# Altium footprint library various.PcbLib: 24 footprints (part 2 of 2)
Each footprint in its own frame and in the unit in brackets; x right, y up, seen from the top. Pads: shape width x height; smd on the part's side, far side on the other; paste and mask are expansions set on the pad; w line width, h text height; cw(c..) or ccw(c..) is an arc to the next point about the centre after c.
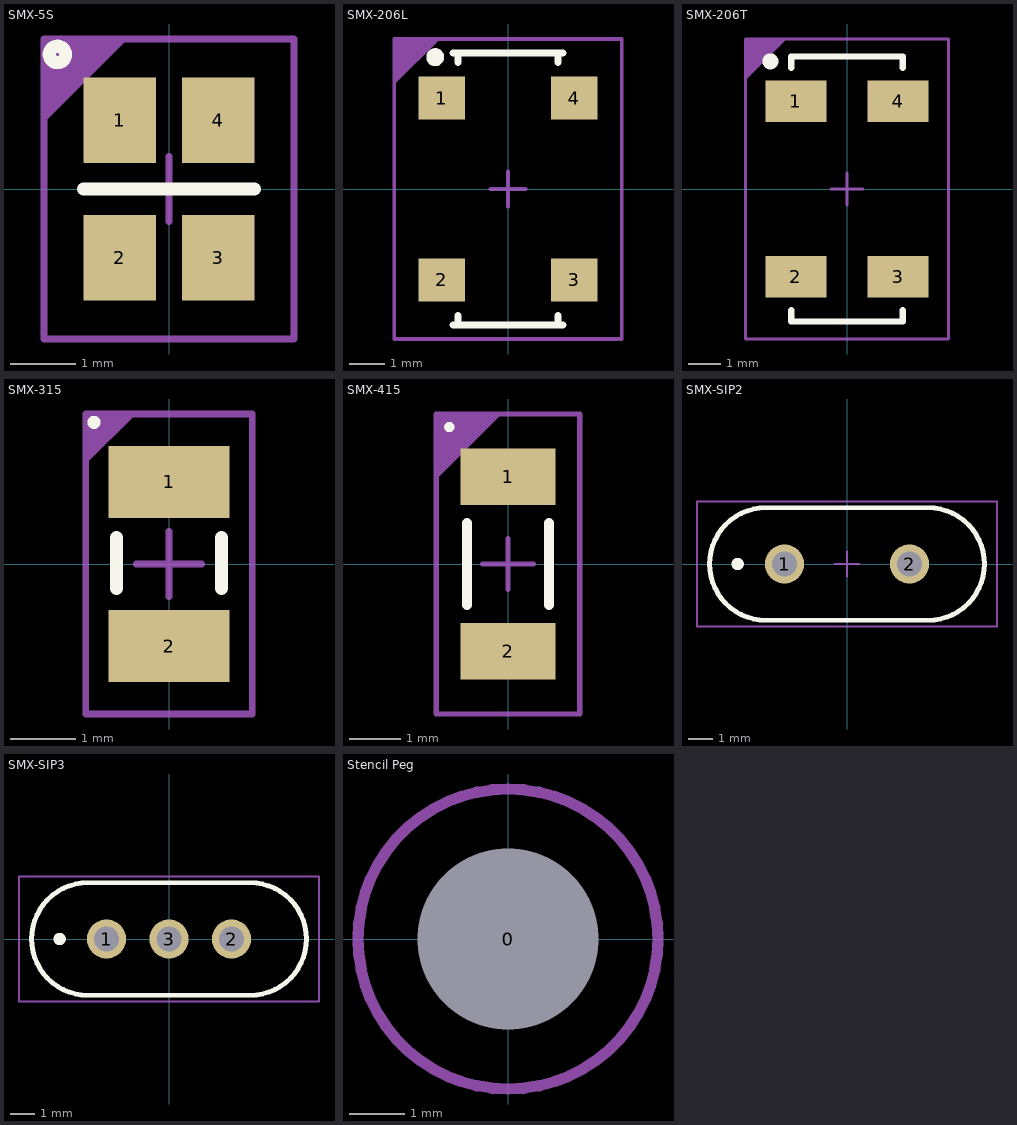
[diagram p1: the footprints below, top view; thin cyan lines are the x and y axes]

## SMX-5S [mm] "QFN, 4-Leads, Body 3,20x2,50mm, Pitch 2,10mm/1,50mm, IPC Medium Density"
height 0.8
pads (4):
  rect 1.1x1.3 smd: 1(-0.75,1.05) 2(-0.75,-1.05) 3(0.75,-1.05) 4(0.75,1.05)
Top Overlay:
  circle w0.2: c-1.7,2.05 r0.125
  lines w0.2: -1.3,0 1.3,0
Mechanical 13:
  region: -1.905,2.286 -1.905,1.016 -0.635,2.286
  lines w0.1: -1.905,-2.286 -1.905,2.286 1.905,2.286 1.905,-2.286 -1.905,-2.286
  text ".Designator" at -0.762,2.032 h1.6
Mechanical 15:
  lines w0.05: -1.905,-2.286 -1.905,2.286 1.905,2.286 1.905,-2.286 -1.905,-2.286
  lines w0.1: -0.5,0 0.5,0 ; 0,-0.5 0,0.5
3D body: height 0.8, standoff 0.1, extent -1.25,-1.6 1.25,1.6

## SMX-206L [mm] "QFN, 4-Leads, Body 7,30x2,50mm, Pitch 5,08mm, IPC Medium Density"
height 2
pads (4):
  rect 1.3x1.2 smd: 1(-1.85,2.54) 2(-1.85,-2.54) 3(1.85,-2.54) 4(1.85,2.54)
Top Overlay:
  circle w0.25: c-2.032,3.683 r0.125
  lines w0.2: -1.54,-3.8 1.4,-3.8 1.4,-3.54 ; -1.54,3.8 1.4,3.8 1.4,3.54 ; -1.4,-3.54 -1.4,-3.8 1.54,-3.8 ; -1.4,3.54 -1.4,3.8 1.54,3.8
Mechanical 13:
  region: -3.175,4.191 -3.175,2.921 -1.905,4.191
  lines w0.1: -3.175,-4.191 3.175,-4.191 3.175,4.191 -3.175,4.191 -3.175,-4.191
  text ".Designator" at -1.016,2.286 h2
Mechanical 15:
  lines w0.05: -3.175,-4.191 3.175,-4.191 3.175,4.191 -3.175,4.191 -3.175,-4.191
  lines w0.1: -0.5,0 0.5,0 ; 0,-0.5 0,0.5
3D body: height 2, standoff 0.1, extent -1.25,-3.65 1.25,3.65

## SMX-206T [mm] "QFN, 4-Leads, Body 8,00x3,20mm, Pitch 5,50mm, IPC Medium Density"
height 2.4
pads (4):
  rect 1.9x1.3 smd: 1(-1.6,2.75) 2(-1.6,-2.75) 3(1.6,-2.75) 4(1.6,2.75)
Top Overlay:
  circle w0.25: c-2.4,4 r0.125
  lines w0.2: -1.75,-3.8 -1.75,-4.15 1.7,-4.15 ; -1.75,3.8 -1.75,4.15 1.7,4.15 ; -1.7,-4.15 1.75,-4.15 1.75,-3.8 ; -1.7,4.15 1.75,4.15 1.75,3.8
Mechanical 13:
  region: -3.175,4.699 -3.175,3.429 -1.905,4.699
  lines w0.1: -3.175,-4.699 -3.175,4.699 3.175,4.699 3.175,-4.699 -3.175,-4.699
  text ".Designator" at -1.016,2.286 h2
Mechanical 15:
  lines w0.05: -3.175,-4.699 -3.175,4.699 3.175,4.699 3.175,-4.699 -3.175,-4.699
  lines w0.1: -0.5,0 0.5,0 ; 0,-0.5 0,0.5
3D body: height 2.4, standoff 0.1, extent -1.6,-4 1.6,4

## SMX-315 [mm] "QFN, 2-Leads, Body 3,20x1,50mm, Pitch 2,50mm, IPC Medium Density"
height 0.9
pads (2):
  rect 1.85x1.1 smd: 1(0,1.25) 2(0,-1.25)
Top Overlay:
  circle w0.1: c-1.143,2.159 r0.05
  lines w0.2: -0.8,-0.375 -0.8,0.4 ; 0.8,-0.375 0.8,0.4
Mechanical 13:
  region: -1.27,2.286 -1.27,1.524 -0.508,2.286
  lines w0.1: -1.27,-2.286 1.27,-2.286 1.27,2.286 -1.27,2.286 -1.27,-2.286
  text ".Designator" at -0.762,2.032 h1.6
Mechanical 15:
  lines w0.05: -1.27,-2.286 1.27,-2.286 1.27,2.286 -1.27,2.286 -1.27,-2.286
  lines w0.1: -0.5,0 0.5,0 ; 0,-0.5 0,0.5
3D body: height 0.9, standoff 0.1, extent -0.75,-1.6 0.75,1.6

## SMX-415 [mm] "QFN, 2-Leads, Body 4,10x1,50mm, Pitch 3,40mm, IPC Medium Density"
height 0.9
pads (2):
  rect 1.85x1.1 smd: 1(0,1.7) 2(0,-1.7)
Top Overlay:
  circle w0.1: c-1.143,2.667 r0.05
  lines w0.2: -0.8,-0.8 -0.8,0.8 ; 0.8,-0.8 0.8,0.8
Mechanical 13:
  region: -1.397,2.921 -1.397,1.651 -0.127,2.921
  lines w0.1: -1.397,-2.921 -1.397,2.921 1.397,2.921 1.397,-2.921 -1.397,-2.921
  text ".Designator" at -0.762,1.778 h1.6
Mechanical 15:
  lines w0.05: -1.397,-2.921 -1.397,2.921 1.397,2.921 1.397,-2.921 -1.397,-2.921
  lines w0.1: -0.5,0 0.5,0 ; 0,-0.5 0,0.5
3D body: height 0.9, standoff 0.1, extent -0.75,-2.05 0.75,2.05

## SMX-SIP2 [mm]
pads (2):
  round 1.6 hole 1: 1(-2.54,0) 2(2.54,0)
Top Overlay:
  circle w0.25: c-4.443,0 r0.125
  lines w0.2: -3.302,-2.286 cw(c-3.302,0) -3.302,2.286 3.302,2.286 cw(c3.302,0) 3.302,-2.286 -3.302,-2.286
Mechanical 13:
  lines w0.1: -6.096,-2.54 6.096,-2.54 6.096,2.54 -6.096,2.54 -6.096,-2.54
  text ".Designator" at -2.286,-1.016 h2
Mechanical 15:
  lines w0.05: -6.096,-2.54 6.096,-2.54 6.096,2.54 -6.096,2.54 -6.096,-2.54
  lines w0.1: -0.5,0 0.5,0 ; 0,-0.5 0,0.5
3D body "HC-49S.STEP": height 3.5, standoff -2.25, extent -5.6,-2.3 5.6,2.3

## SMX-SIP3 [mm]
pads (3):
  round 1.6 hole 1: 1(-2.54,0) 2(2.54,0) 3(0,0)
Top Overlay:
  circle w0.25: c-4.443,0 r0.125
  lines w0.2: -3.302,-2.286 cw(c-3.302,0) -3.302,2.286 3.302,2.286 cw(c3.302,0) 3.302,-2.286 -3.302,-2.286
Mechanical 13:
  lines w0.1: -6.096,-2.54 6.096,-2.54 6.096,2.54 -6.096,2.54 -6.096,-2.54
  text ".Designator" at -2.286,-1.016 h2
Mechanical 15:
  lines w0.05: -6.096,-2.54 6.096,-2.54 6.096,2.54 -6.096,2.54 -6.096,-2.54
  lines w0.1: -0.5,0 0.5,0 ; 0,-0.5 0,0.5
3D body "HC-49S.STEP": height 3.5, standoff -2.25, extent -5.6,-2.3 5.6,2.3

## Stencil Peg [mil]
pads (2):
  round 130 on Top Paste paste+0: 0(0,0)
  round 0 hole 130 paste+0: 1(0,0)
Mechanical 1:
  circle w8: c0,0 r107.5